# Altium schematic symbol library Semiconductor.SchLib: 40 symbols (part 2 of 2)
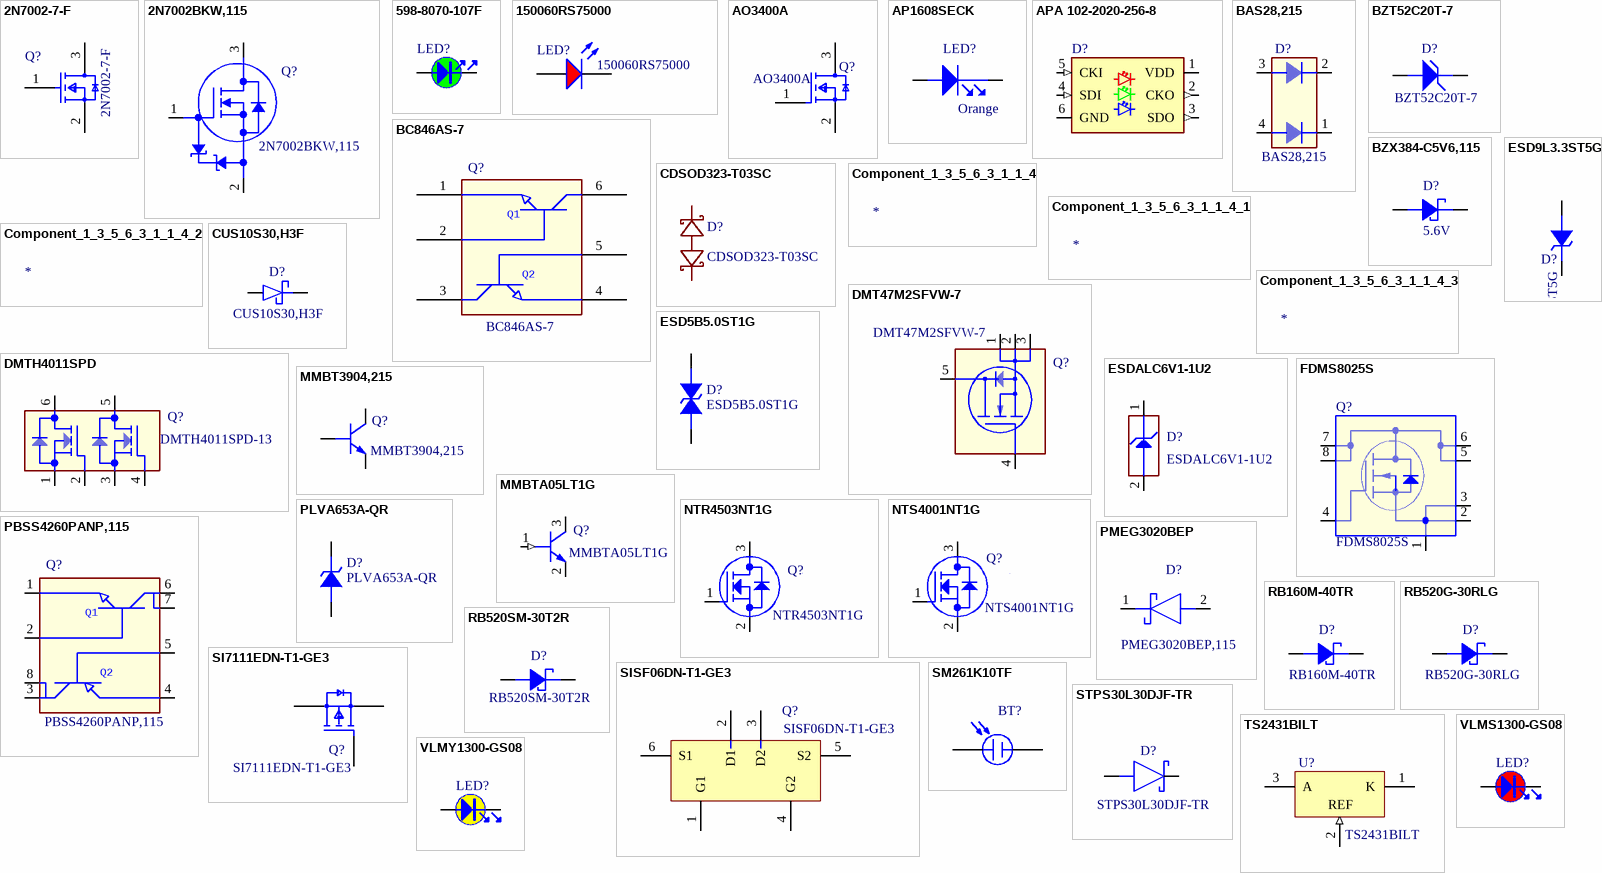
[diagram p1: symbols 2N7002-7-F to VLMY1300-GS08]

## RB520G-30RLG
designator D?
Rectifier Diode, Schottky, 1 Element, 0.1A, 30V V(RRM), Silicon; Manufacturer: Taiwan Semiconductor; Library: Hexabitz; Average Rectified Current: 100mA; Supplier: Digikey; Supplier Part Number: 1801-RB520G-30RLGDKR-ND; RoHS: Yes; Category: Uncategorized; Stock: 17741; Pricing: 1=0.22, 10=0.147, 100=0.1069, 500=0.08336, 1000=0.07167, 2000=0.069 (USD); Mounting Technology: Surface Mount; Case/Package: SMD/SMT; Packaging: Tape and Reel; Max Reverse Voltage (DC): 30V; Series: -; RoHS Compliant: Yes; ComponentLink1URL: https://datasheet.ciiva.com/13080/rb520g-3020b12-13080676.pdf?src-supplier=Mouser; ComponentLink1Description: https://datasheet.ciiva.com/13080/rb520g-3020b12-13080676.pdf?src-supplier=Mouser; Supplier 1: Digikey; Supplier Part Number 1: 1801-RB520G-30RLGDKR-ND; Supplier 2: Mouser; Supplier Part Number 2: 821-RB520G-30-RLG; Manufacturer Part Number: RB520G-30RLG
footprint DIO_RB520G-30_RLG
pins: A, C

## RB520SM-30T2R
designator D?
Rectifier Diode, Schottky, 1 Phase, 1 Element, 0.2A, 30V V(RRM), Silicon; Manufacturer: Rohm; Library: Hexabitz; Supplier: Digikey; Supplier Part Number: RB520SM-30T2RDKR-ND; RoHS: Yes; Category: Rectifier Diodes; Stock: 200854; Pricing: 1=0.27, 10=0.154, 100=0.0877, 500=0.0703, 1000=0.06204, 2000=0.05507 (USD); ComponentLink1URL: https://datasheet.ciiva.com/29593/rb520sm-30-29593041.pdf?src-supplier=Digikey; ComponentLink1Description: https://datasheet.ciiva.com/29593/rb520sm-30-29593041.pdf?src-supplier=Digikey; ComponentLink2URL: https://datasheet.ciiva.com/16481/rb520sm-30-16481047.pdf?src-supplier=Future+Electronics; ComponentLink2Description: https://datasheet.ciiva.com/16481/rb520sm-30-16481047.pdf?src-supplier=Future+Electronics; Supplier 1: Digikey; Supplier Part Number 1: RB520SM-30T2RDKR-ND; Manufacturer Part Number: RB520SM-30T2R
footprint SOD523
pins: A, C

## SI7111EDN-T1-GE3
designator Q?
P-Channel 30 V 8.55 mOhm 52 W TrenchFET Gen III Mosfet-PowerPAK-1212-8; Manufacturer: Vishay; Continuous Drain Current (ID): -60A; Drain to Source Voltage (Vdss): -30V; Threshold Voltage: -1.6V; Max Power Dissipation: 52W; Drain to Source Resistance: 7.2mR; Gate to Source Voltage (Vgs): 12V; Number of Channels: 1NUMBER; Power Dissipation: 4.1W; Turn-Off Delay Time: 120ns; Turn-On Delay Time: 25ns; Library: Hexabitz; Supplier: Digikey; Supplier Part Number: SI7111EDN-T1-GE3DKR-ND; Manufacturer Part Number: SI7111EDN-T1-GE3; RoHS: Yes; Category: MOSFETs; Stock: 4527; Pricing: 1=0.84, 10=0.605, 100=0.4043, 500=0.31422, 1000=0.28409 (USD); Pins: 8; Min Operating Temperature: -55°C; Max Operating Temperature: 150°C; Drain to Source Breakdown Voltage: -30V; Height: 1.17mm; Reach SVHC Compliant: No; RoHS Compliant: Yes; ComponentLink1URL: http://www.vishay.com/docs/67807/si7111edn.pdf?src-supplier=Digikey; ComponentLink1Description: http://www.vishay.com/docs/67807/si7111edn.pdf?src-supplier=Digikey; ComponentLink2URL: https://datasheet.octopart.com/SI7111EDN-T1-GE3-Vishay-datasheet-91931754.pdf?src-supplier=Future+Electronics; ComponentLink2Description: https://datasheet.octopart.com/SI7111EDN-T1-GE3-Vishay-datasheet-91931754.pdf?src-supplier=Future+Electronics; ComponentLink3URL: https://datasheet.octopart.com/SI7111EDN-T1-GE3-Vishay-datasheet-67135138.pdf?src-supplier=Element14; ComponentLink3Description: https://datasheet.octopart.com/SI7111EDN-T1-GE3-Vishay-datasheet-67135138.pdf?src-supplier=Element14; Supplier 1: Digikey; Supplier Part Number 1: SI7111EDN-T1-GE3DKR-ND; Supplier 2: Mouser; Supplier Part Number 2: 78-SI7111EDN-T1-GE3
footprint SQ7414AENT1GE3; pin to pad 1>1+2+3 5>5+6+7+8+9
pins: 1 S, 4 G, 5 D

## SISF06DN-T1-GE3
designator Q?
Mosfet, Dual N-Ch, 30V, Powerpak 1212 Rohs Compliant: Yes |Vishay SISF06DN-T1-GE3; Manufacturer: Vishay; Library: Hexabitz; FET Type: 2 N-Channel; Continuous Drain Current (ID): 101A; Rds On Max: 4.5mR; Input Capacitance: 2.05nF; Max Power Dissipation: 69.4W; Supplier: Digikey; Supplier Part Number: 742-SISF06DN-T1-GE3DKR-ND; RoHS: No; Stock: 13442; Pricing: 1=1.72, 10=1.091, 100=0.731, 500=0.57662, 1000=0.52696 (USD); Mounting Technology: Surface Mount; Min Operating Temperature: -55°C; Max Operating Temperature: 150°C; Series: TrenchFET® Gen IV; Drain to Source Voltage (Vdss): 30V; ComponentLink1URL: https://datasheet.octopart.com/SISF06DN-T1-GE3-Vishay-datasheet-156007811.pdf?src-supplier=Future+Electronics; ComponentLink1Description: https://datasheet.octopart.com/SISF06DN-T1-GE3-Vishay-datasheet-156007811.pdf?src-supplier=Future+Electronics; Supplier 1: Digikey; Supplier Part Number 1: 742-SISF06DN-T1-GE3DKR-ND; Manufacturer Part Number: SISF06DN-T1-GE3
footprint SISF06DN-T1-GE3
pins: 1 G1, 2 D1, 3 D2, 4 G2, 5 S2, 6 S1

## SM261K10TF
designator BT?  (value not drawn)
Solar Cell G3 Thin 6.91V 570.8MW; Manufacturer: ANYSOLAR; Library: Hexabitz; Supplier: DigiKey; Supplier Part Number: 2994-SM261K10TF-ND; Manufacturer Part Number: SM261K10TF; Category: Sensors; Stock: 79; Pricing: 1=17.44, 10=14.287, 60=12.2725, 120=11.5785, 300=10.72583, 540=10.575 (USD)
footprint SM261K10TF
pins: N, P

## STPS30L30DJF-TR
designator D?
STPS30L30DJF Series 30 V 30 A SMT Power Schottky Diode - PowerFLAT 5x6; Manufacturer: STMicroelectronics; Max Surge Current: 250A; Forward Current: 30A; Max Reverse Current: 750uA; Max Repetitive Reverse Voltage (Vrrm): 30V; Library: Hexabitz; ComponentLink1URL: https://datasheet.ciiva.com/22686/1716330-22686565.pdf?src-supplier=Element14; ComponentLink1Description: https://datasheet.ciiva.com/22686/1716330-22686565.pdf?src-supplier=Element14; ComponentLink2URL: https://datasheet.ciiva.com/13083/dm00050888-101373-13083345.pdf?src-supplier=Mouser; ComponentLink2Description: https://datasheet.ciiva.com/13083/dm00050888-101373-13083345.pdf?src-supplier=Mouser; ComponentLink3URL: https://datasheet.ciiva.com/23818/dm00050888-23818879.pdf?src-supplier=Newark; ComponentLink3Description: https://datasheet.ciiva.com/23818/dm00050888-23818879.pdf?src-supplier=Newark; ComponentLink4URL: https://datasheet.ciiva.com/906/dm00050888-906144.pdf?src-supplier=Digikey; ComponentLink4Description: https://datasheet.ciiva.com/906/dm00050888-906144.pdf?src-supplier=Digikey; Supplier: Digikey; Supplier Part Number: 497-12867-6-ND; RoHS: Yes; Category: Rectifier Diodes; Stock: 10559; Pricing: 1=1.66, 10=1.06, 100=0.7765, 500=0.61406, 1000=0.56304 (USD); Mounting Technology: Surface Mount; Case/Package: SMD/SMT; Pins: 8; Min Operating Temperature: -25°C; Max Operating Temperature: 150°C; Package Quantity: 1; Packaging: Tape and Reel; Average Rectified Current: 30A; Max Reverse Leakage Current: 750uA; Peak Non-Repetitive Surge Current: 250A; Max Forward Surge Current (Ifsm): 250A; Max Reverse Voltage (DC): 30V; Series: -; Length: 6.15mm; Height: 0.95mm; Radiation Hardening: No; Reach SVHC Compliant: No; Lead Free: Lead Free; RoHS Compliant: Yes; Supplier 1: Digikey; Supplier Part Number 1: 497-12867-6-ND; Manufacturer Part Number: STPS30L30DJF-TR
footprint FP-PowerFLAT_5x6-MFG; pin to pad 1>1+2+3+4 2>5
pins: 1 A, 2 C

## TS2431BILT
designator U?
V-Ref Adjustable 2.5V to 24V 100mA 3-Pin SOT-23 T/R / IC VREF SHUNT ADJ SOT23-3; Manufacturer: STMicroelectronics; Library: Hexabitz; ComponentLink1URL: http://www.st.com; ComponentLink1Description: Manufacturer URL; ComponentLink2URL: http://www.st.com/internet/com/TECHNICAL_RESOURCES/TECHNICAL_LITERATURE/DATASHEET/CD00002483.pdf; ComponentLink2Description: Datasheet; Supplier: Digikey; Supplier Part Number: 497-4059-6-ND; RoHS: Yes; Category: Voltage References; Stock: 22297; Pricing: 1=0.53, 10=0.375, 25=0.3356, 100=0.2922, 250=0.27136, 500=0.2588, 1000=0.24847 (USD); ComponentLink3URL: https://datasheet.ciiva.com/4907/cd00002483-109337-4907649.pdf?src-supplier=Mouser; ComponentLink3Description: https://datasheet.ciiva.com/4907/cd00002483-109337-4907649.pdf?src-supplier=Mouser; ComponentLink4URL: https://datasheet.ciiva.com/2006/cd00002483-2006315.pdf?src-supplier=Digikey; ComponentLink4Description: https://datasheet.ciiva.com/2006/cd00002483-2006315.pdf?src-supplier=Digikey; ComponentLink5URL: https://datasheet.ciiva.com/2006/cd00002483-2006316.pdf?src-supplier=Digikey; ComponentLink5Description: https://datasheet.ciiva.com/2006/cd00002483-2006316.pdf?src-supplier=Digikey; ComponentLink6URL: https://datasheet.ciiva.com/2006/cd00002483-2006317.pdf?src-supplier=Digikey; ComponentLink6Description: https://datasheet.ciiva.com/2006/cd00002483-2006317.pdf?src-supplier=Digikey; ComponentLink7URL: https://datasheet.ciiva.com/16501/cd00002483-16501845.pdf?src-supplier=Future+Electronics; ComponentLink7Description: https://datasheet.ciiva.com/16501/cd00002483-16501845.pdf?src-supplier=Future+Electronics; ComponentLink8URL: https://datasheet.ciiva.com/41424/001185274-da-01-en-ic-vref-shunt-pr-ts2431bilt-sot-23-3-stm-41424471.pdf?src-supplier=Conrad; ComponentLink8Description: https://datasheet.ciiva.com/41424/001185274-da-01-en-ic-vref-shunt-pr-ts2431bilt-sot-23-3-stm-41424471.pdf?src-supplier=Conrad; Supplier 1: Digikey; Supplier Part Number 1: 497-4059-6-ND; Manufacturer Part Number: TS2431BILT
footprint SOT23-3_N (SOT23, 3-Leads, Body 2.9x1.3mm, Pitch 0.95mm, Lead Span 2.4mm, IPC Medium Density)
pins: 1 K, 2 REF (in), 3 A

## VLMS1300-GS08
designator LED?  (value not drawn)
LED Uni-Color Super Red 639nm 2-Pin Chip 0603(1608Metric) T/R; Manufacturer: Vishay Semiconductors; Library: Hexabitz; Viewing Angle: 130°; Lens Style: Rectangular,Clear; Number of LEDs: 1; Luminous Intensity: 54mcd; Forward Voltage: 2V; Wavelength: 631nm; Forward Current: 20mA; Power Rating: 75mW; Supplier: Digikey; Supplier Part Number: VLMS1300-GS08DKR-ND; Manufacturer Part Number: VLMS1300-GS08; RoHS: Yes; Category: LEDs; Stock: 56745; Pricing: 1=0.21, 10=0.143, 100=0.0998, 500=0.07982, 1000=0.07322 (USD); Mounting Technology: Surface Mount; Case/Package: 0603; Color: Red; Case Code (Metric): 1608; Case Code (Imperial): 0603; Min Operating Temperature: -35°C; Max Operating Temperature: 85°C; Package Quantity: 1; Packaging: Tape and Reel; Illumination Color: Red; Dominant Wavelength: 631nm; Test Current: 20mA; Series: CHipLED; Length: 1.6mm; Width: 0.8mm; Height: 0.8mm; Radiation Hardening: No; Lead Free: Lead Free; RoHS Compliant: Yes; Reach SVHC Compliant: Unknown; ComponentLink1URL: https://datasheet.ciiva.com/26322/vlmo1300-26322153.pdf?src-supplier=Element14; ComponentLink1Description: https://datasheet.ciiva.com/26322/vlmo1300-26322153.pdf?src-supplier=Element14; ComponentLink2URL: https://datasheet.ciiva.com/8028/vlmo1300-8028047.pdf?src-supplier=Element14; ComponentLink2Description: https://datasheet.ciiva.com/8028/vlmo1300-8028047.pdf?src-supplier=Element14; ComponentLink3URL: https://datasheet.ciiva.com/9333/vlmo1300-9333743.pdf?src-supplier=Avnet; ComponentLink3Description: https://datasheet.ciiva.com/9333/vlmo1300-9333743.pdf?src-supplier=Avnet; ComponentLink4URL: https://datasheet.ciiva.com/16510/vlmo1300-16510985.pdf?src-supplier=Future+Electronics; ComponentLink4Description: https://datasheet.ciiva.com/16510/vlmo1300-16510985.pdf?src-supplier=Future+Electronics; ComponentLink5URL: https://datasheet.ciiva.com/2114/vlmo1300-2114930.pdf?src-supplier=Digikey; ComponentLink5Description: https://datasheet.ciiva.com/2114/vlmo1300-2114930.pdf?src-supplier=Digikey; ComponentLink6URL: https://datasheet.ciiva.com/2114/vlmo1300-2114931.pdf?src-supplier=Digikey; ComponentLink6Description: https://datasheet.ciiva.com/2114/vlmo1300-2114931.pdf?src-supplier=Digikey; ComponentLink7URL: https://datasheet.ciiva.com/2114/vlmo1300-2114929.pdf?src-supplier=Digikey; ComponentLink7Description: https://datasheet.ciiva.com/2114/vlmo1300-2114929.pdf?src-supplier=Digikey; Supplier 1: Digikey; Supplier Part Number 1: VLMS1300-GS08DKR-ND
footprint FP-6_541-5092_01-4-MFG
pins: 1, 2

## VLMY1300-GS08
designator LED?  (value not drawn)
LED Uni-Color Yellow 588nm 2-Pin Chip 0603(1608Metric) T/R; Manufacturer: Vishay Semiconductors; Library: Hexabitz; Forward Voltage: 2.4V; Luminous Intensity: 180mcd; Wavelength: 597nm; Viewing Angle: 130°; Forward Current: 20mA; Lens Style: Rectangular,Clear; Power Rating: 75mW; Number of Elements: 1; Reverse Voltage: 5V; Supplier: Digikey; Supplier Part Number: VLMY1300-GS08DKR-ND; Manufacturer Part Number: VLMY1300-GS08; RoHS: Yes; Category: LEDs; Stock: 17575; Pricing: 1=0.22, 10=0.15, 100=0.1048, 500=0.08398, 1000=0.07707 (USD); Mounting Technology: Surface Mount; Case/Package: 0603; Pins: 2; Color: Yellow; Case Code (Metric): 1608; Case Code (Imperial): 0603; Min Operating Temperature: -35°C; Max Operating Temperature: 85°C; Packaging: Tape and Reel; Package Quantity: 1; Illumination Color: Yellow; Dominant Wavelength: 597nm; Test Current: 20mA; Power Dissipation: 75mW; Number of LEDs: 1; Series: CHipLED; Length: 1.6mm; Width: 0.8mm; Height: 0.8mm; Depth: 0.8mm; Radiation Hardening: No; Lead Free: Lead Free; RoHS Compliant: Yes; Reach SVHC Compliant: Unknown; ComponentLink1URL: https://datasheet.ciiva.com/30501/0900766b81180479-30501395.pdf?src-supplier=Rs; ComponentLink1Description: https://datasheet.ciiva.com/30501/0900766b81180479-30501395.pdf?src-supplier=Rs; ComponentLink2URL: https://datasheet.ciiva.com/26322/vlmo1300-26322154.pdf?src-supplier=Element14; ComponentLink2Description: https://datasheet.ciiva.com/26322/vlmo1300-26322154.pdf?src-supplier=Element14; ComponentLink3URL: https://datasheet.ciiva.com/26322/vlmo1300-26322152.pdf?src-supplier=Element14; ComponentLink3Description: https://datasheet.ciiva.com/26322/vlmo1300-26322152.pdf?src-supplier=Element14; ComponentLink4URL: https://datasheet.ciiva.com/9333/vlmo1300-9333773.pdf?src-supplier=Avnet; ComponentLink4Description: https://datasheet.ciiva.com/9333/vlmo1300-9333773.pdf?src-supplier=Avnet; ComponentLink5URL: https://datasheet.ciiva.com/16503/vlmo1300-16503846.pdf?src-supplier=Future+Electronics; ComponentLink5Description: https://datasheet.ciiva.com/16503/vlmo1300-16503846.pdf?src-supplier=Future+Electronics; Supplier 1: Digikey; Supplier Part Number 1: VLMY1300-GS08DKR-ND
footprint FP-6_541-5092_01-4-MFG (Footprint not found)
pins: 1, 2